# Altium schematic symbol library R_2P.Schlib: 1 symbol
Pins are listed as number, name and electrical type; pins without a type are passive.

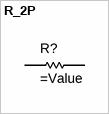
[diagram p0: symbol R_2P]

## R_2P
designator R?
pins: 1, 2